# EAGLE library part DIE-PICO-MULTI-RING-FILTERS (library isg-custom)
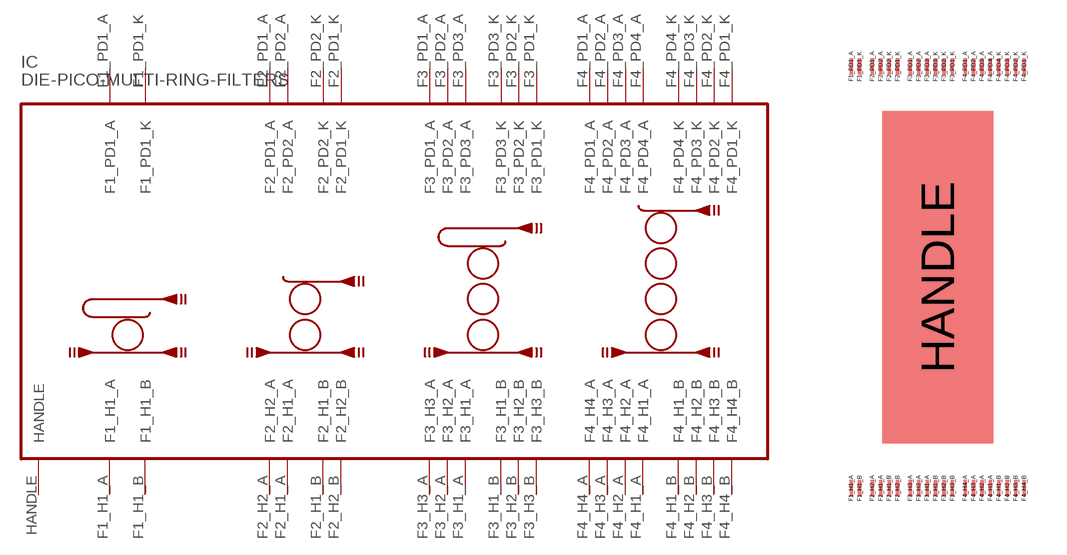
[diagram p0: symbol with the pads of DIE-PICO-MULTI-RING-FILTERS; footprint DIE-PICO-MULTI-RING-FILTERS]

Designator prefix IC

## DIE-PICO-MULTI-RING-FILTERS (VALUE: PICO_BAREDIE)  [DIE-PICO-MULTI-RING-FILTERS]
F1_H1_A  F1_H1_A
F1_H1_B  F1_H1_B
F1_PD1_A  F1_PD1_A
F1_PD1_K  F1_PD1_K
F2_H1_A  F2_H1_A
F2_H1_B  F2_H1_B
F2_H2_A  F2_H2_A
F2_H2_B  F2_H2_B
F2_PD1_A  F2_PD1_A
F2_PD1_K  F2_PD1_K
F2_PD2_A  F2_PD2_A
F2_PD2_K  F2_PD2_K
F3_H1_A  F3_H1_A
F3_H1_B  F3_H1_B
F3_H2_A  F3_H2_A
F3_H2_B  F3_H2_B
F3_H3_A  F3_H3_A
F3_H3_B  F3_H3_B
F3_PD1_A  F3_PD1_A
F3_PD1_K  F3_PD1_K
F3_PD2_A  F3_PD2_A
F3_PD2_K  F3_PD2_K
F3_PD3_A  F3_PD3_A
F3_PD3_K  F3_PD3_K
F4_H1_A  F4_H1_A
F4_H1_B  F4_H1_B
F4_H2_A  F4_H2_A
F4_H2_B  F4_H2_B
F4_H3_A  F4_H3_A
F4_H3_B  F4_H3_B
F4_H4_A  F4_H4_A
F4_H4_B  F4_H4_B
F4_PD1_A  F4_PD1_A
F4_PD1_K  F4_PD1_K
F4_PD2_A  F4_PD2_A
F4_PD2_K  F4_PD2_K
F4_PD3_A  F4_PD3_A
F4_PD3_K  F4_PD3_K
F4_PD4_A  F4_PD4_A
F4_PD4_K  F4_PD4_K
HANDLE  HANDLE

## Footprint DIE-PICO-MULTI-RING-FILTERS (pad centres in mm)
smd 0.152 x 0.61: F1_H1_A -3.124,-7.62; F1_H1_B -2.819,-7.62; F1_PD1_A -3.124,7.62; F1_PD1_K -2.819,7.62; F2_H1_A -2.057,-7.62; F2_H1_B -1.753,-7.62; F2_H2_A -2.362,-7.62; F2_H2_B -1.448,-7.62; F2_PD1_A -2.362,7.62; F2_PD1_K -1.448,7.62; F2_PD2_A -2.057,7.62; F2_PD2_K -1.753,7.62; F3_H1_A -0.381,-7.62; F3_H1_B -0.076,-7.62; F3_H2_A -0.686,-7.62; F3_H2_B 0.229,-7.62; F3_H3_A -0.991,-7.62; F3_H3_B 0.533,-7.62; F3_PD1_A -0.991,7.62; F3_PD1_K 0.533,7.62; F3_PD2_A -0.686,7.62; F3_PD2_K 0.229,7.62; F3_PD3_A -0.381,7.62; F3_PD3_K -0.076,7.62; F4_H1_A 1.905,-7.62; F4_H1_B 2.21,-7.62; F4_H2_A 1.6,-7.62; F4_H2_B 2.515,-7.62; F4_H3_A 1.295,-7.62; F4_H3_B 2.819,-7.62; F4_H4_A 0.991,-7.62; F4_H4_B 3.124,-7.62; F4_PD1_A 0.991,7.62; F4_PD1_K 3.124,7.62; F4_PD2_A 1.295,7.62; F4_PD2_K 2.819,7.62; F4_PD3_A 1.6,7.62; F4_PD3_K 2.515,7.62; F4_PD4_A 1.905,7.62; F4_PD4_K 2.21,7.62
smd 4 x 12: HANDLE 0,0